# EAGLE library part BQ76920 (library pie)
BQ76920, a TSSOP Battery monotoring chip by TI
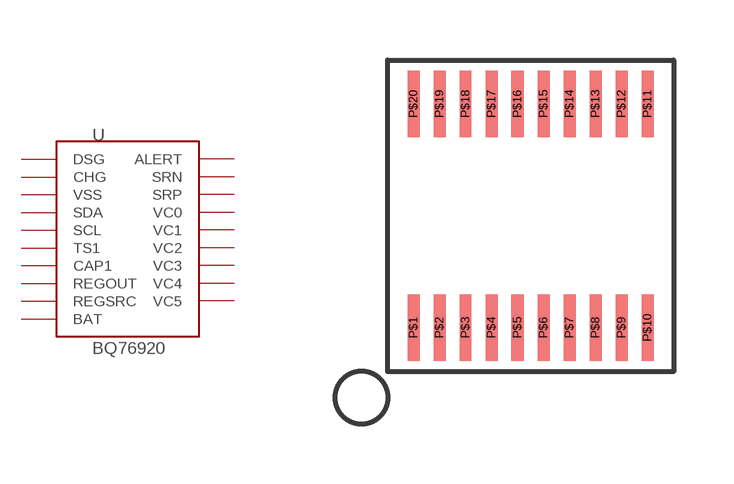
[diagram p41: symbol with the pads of 20-TSSOP; footprint 20-TSSOP]

Designator prefix -

## BQ76920  [20-TSSOP]
P$1  DSG
P$2  CHG
P$3  VSS
P$4  SDA
P$5  SCL
P$6  TS1
P$7  CAP1
P$8  REGOUT
P$9  REGSRC
P$10  BAT
P$12  VC5
P$13  VC4
P$14  VC3
P$15  VC2
P$16  VC1
P$17  VC0
P$18  SRP
P$19  SRN
P$20  ALERT

## Footprint 20-TSSOP (pad centres in mm)
20 pin TTSSOP footprint
smd 0.3 x 1.66: P$1 -2.6,-2.8; P$2 -1.95,-2.8; P$3 -1.3,-2.8; P$4 -0.65,-2.8; P$5 0,-2.8; P$6 0.65,-2.8; P$7 1.3,-2.8; P$8 1.95,-2.8; P$9 2.6,-2.8; P$10 3.25,-2.8; P$11 3.25,2.8; P$12 2.6,2.8; P$13 1.95,2.8; P$14 1.3,2.8; P$15 0.65,2.8; P$16 0,2.8; P$17 -0.65,2.8; P$18 -1.3,2.8; P$19 -1.95,2.8; P$20 -2.6,2.8